# Altium schematic symbol library VOS617A-8X001T.SchLib: 1 symbol
Pins are listed as number, name and electrical type; pins without a type are passive.

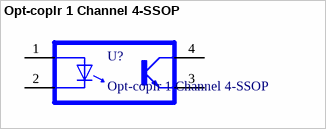
[diagram p0: symbol Opt-coplr 1 Channel 4-SSOP]

## Opt-coplr 1 Channel 4-SSOP
designator U?
Opt-coplr 1 Channel 4-SSOP SMT VOS617A-8X001T; Package: None; Price: None; Value: *; MP: VOS617A-8X001T; Availability: Unavailable
footprint SOIC127P700X210-4N
pins: 1 A, 2 C, 3 E, 4 CO